# Altium schematic symbol library STT6N3LLH6.SchLib: 1 symbol
Pins are listed as number, name and electrical type; pins without a type are passive.

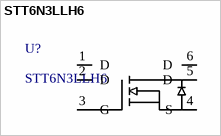
[diagram p0: symbol STT6N3LLH6]

## STT6N3LLH6
designator U?
N-channel 30 V, 0.021 Ohm, 6 A STripFET(TM) VI DeepGATE(TM) Power MOSFET in SOT23-6L package; Manufacturer_Name: STMicroelectronics; Copyright: Copyright (C) 2026 Ultra Librarian. All rights reserved.; Manufacturer_Part_Number: STT6N3LLH6; RefDes: RefDes; Type: Type
footprint SOT_6N3LLH6_STM
pins: 1 D, 2 D, 3 G, 4 S, 5 D, 6 D